# Altium footprint library pcb 2x9.PcbLib: 1 footprints
Each footprint in its own frame and in the unit in brackets; x right, y up, seen from the top. Pads: shape width x height; smd on the part's side, far side on the other; paste and mask are expansions set on the pad; w line width, h text height; cw(c..) or ccw(c..) is an arc to the next point about the centre after c.
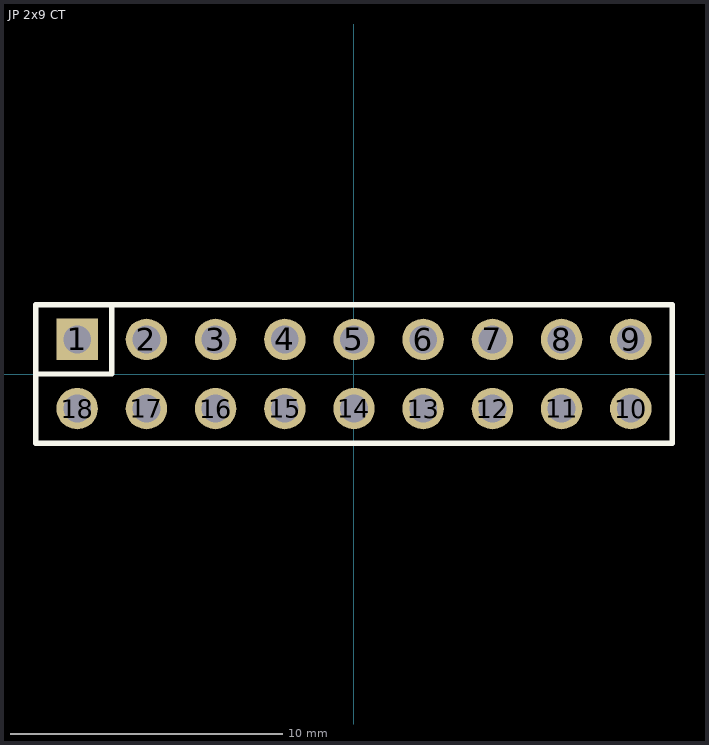
[diagram p0: the footprint, top view; thin cyan lines are the x and y axes]

## JP 2x9 CT [mm] "18 pins, dual row, straight, gold plating"
height 8.5
pads (18):
  rect 1.52x1.52 hole 1.02: 1(-10.16,1.27)
  round 1.52 hole 1.02: 2(-7.62,1.27) 3(-5.08,1.27) 4(-2.54,1.27) 5(0,1.27) 6(2.54,1.27) 7(5.08,1.27) 8(7.62,1.27) 9(10.16,1.27) 10(10.16,-1.27) 11(7.62,-1.27) 12(5.08,-1.27) 13(2.54,-1.27) 14(0,-1.27) 15(-2.54,-1.27) 16(-5.08,-1.27) 17(-7.62,-1.27) 18(-10.16,-1.27)
Top Overlay:
  lines w0.2: -11.68,0 -8.89,0 -8.89,2.54 ; -11.68,-2.54 11.68,-2.54 11.68,2.54 -11.68,2.54 -11.68,-2.54
3D body "61301821821.stp": height 8.51, standoff -3.09, extent -11.68,-2.54 11.68,2.54